# Altium schematic symbol library SF72S006VBDR2500.SchLib: 1 symbol
Pins are listed as number, name and electrical type; pins without a type are passive.

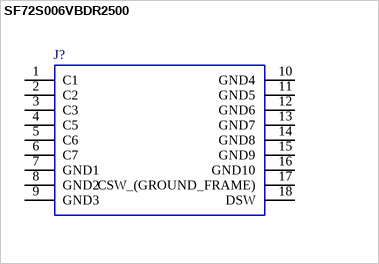
[diagram p0: symbol SF72S006VBDR2500]

## SF72S006VBDR2500
designator J?
Memory Card Connectors NANO SIM Card; Manufacturer_Name: JAE Electronics; Manufacturer_Part_Number: SF72S006VBDR2500; Mouser Part Number: 656-SF72S006VBDR2500; Mouser Price/Stock: https://www.mouser.co.uk/ProductDetail/JAE-Electronics/SF72S006VBDR2500?qs=AQlKX63v8Ru8DC7mjqNwTg%3D%3D; Arrow Part Number: *; Arrow Price/Stock: *; Mouser Testing Part Number: *; Mouser Testing Price/Stock: *; Datasheet Link: https://datasheet.datasheetarchive.com/originals/distributors/DKDS-13/256652.pdf
footprint SF72S006VBDR2500
pins: 1 C1, 2 C2, 3 C3, 4 C5, 5 C6, 6 C7, 7 GND1, 8 GND2, 9 GND3, 10 GND4, 11 GND5, 12 GND6, 13 GND7, 14 GND8, 15 GND9, 16 GND10, 17 CSW_(GROUND_FRAME), 18 DSW